# Altium schematic symbol library MCU.SchLib: 3 symbols
Pins are listed as number, name and electrical type; pins without a type are passive.

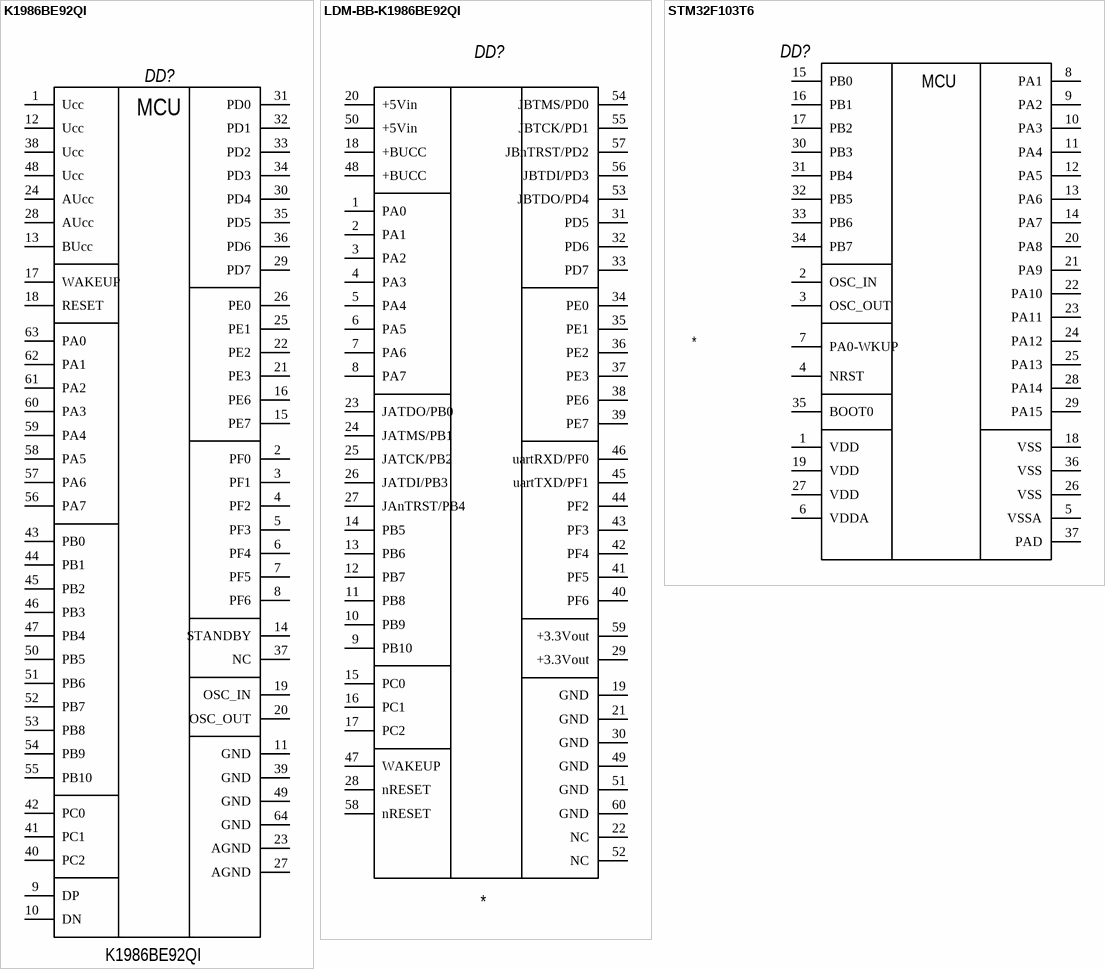
[diagram p0: symbols K1986BE92QI to STM32F103T6]

## K1986BE92QI
designator DD?
pins: 1 Ucc, 2 PF0, 3 PF1, 4 PF2, 5 PF3, 6 PF4, 7 PF5, 8 PF6, 9 DP, 10 DN, 11 GND, 12 Ucc, 13 BUcc, 14 STANDBY, 15 PE7, 16 PE6, 17 WAKEUP, 18 RESET, 19 OSC_IN, 20 OSC_OUT, 21 PE3, 22 PE2, 23 AGND, 24 AUcc, 25 PE1, 26 PE0, 27 AGND, 28 AUcc, 29 PD7, 30 PD4, 31 PD0, 32 PD1, 33 PD2, 34 PD3, 35 PD5, 36 PD6, 37 NC, 38 Ucc, 39 GND, 40 PC2, 41 PC1, 42 PC0, 43 PB0, 44 PB1, 45 PB2, 46 PB3, 47 PB4, 48 Ucc, 49 GND, 50 PB5, 51 PB6, 52 PB7, 53 PB8, 54 PB9, 55 PB10, 56 PA7, 57 PA6, 58 PA5, 59 PA4, 60 PA3, 61 PA2, 62 PA1, 63 PA0, 64 GND
text: MCU

## LDM-BB-K1986BE92QI
designator DD?
pins: 1 PA0, 2 PA1, 3 PA2, 4 PA3, 5 PA4, 6 PA5, 7 PA6, 8 PA7, 9 PB10, 10 PB9, 11 PB8, 12 PB7, 13 PB6, 14 PB5, 15 PC0, 16 PC1, 17 PC2, 18 +BUCC, 19 GND, 20 +5Vin, 21 GND, 22 NC, 23 JATDO/PB0, 24 JATMS/PB1, 25 JATCK/PB2, 26 JATDI/PB3, 27 JAnTRST/PB4, 28 nRESET, 29 +3.3Vout, 30 GND, 31 PD5, 32 PD6, 33 PD7, 34 PE0, 35 PE1, 36 PE2, 37 PE3, 38 PE6, 39 PE7, 40 PF6, 41 PF5, 42 PF4, 43 PF3, 44 PF2, 45 uartTXD/PF1, 46 uartRXD/PF0, 47 WAKEUP, 48 +BUCC, 49 GND, 50 +5Vin, 51 GND, 52 NC, 53 JBTDO/PD4, 54 JBTMS/PD0, 55 JBTCK/PD1, 56 JBTDI/PD3, 57 JBnTRST/PD2, 58 nRESET, 59 +3.3Vout, 60 GND

## STM32F103T6
designator DD?
pins: 1 VDD, 2 OSC_IN, 3 OSC_OUT, 4 NRST, 5 VSSA, 6 VDDA, 7 PA0-WKUP, 8 PA1, 9 PA2, 10 PA3, 11 PA4, 12 PA5, 13 PA6, 14 PA7, 15 PB0, 16 PB1, 17 PB2, 18 VSS, 19 VDD, 20 PA8, 21 PA9, 22 PA10, 23 PA11, 24 PA12, 25 PA13, 26 VSS, 27 VDD, 28 PA14, 29 PA15, 30 PB3, 31 PB4, 32 PB5, 33 PB6, 34 PB7, 35 BOOT0, 36 VSS, 37 PAD
text: MCU